# EAGLE library part WOLFSON-I2S-WM8521 (library Pygmy)
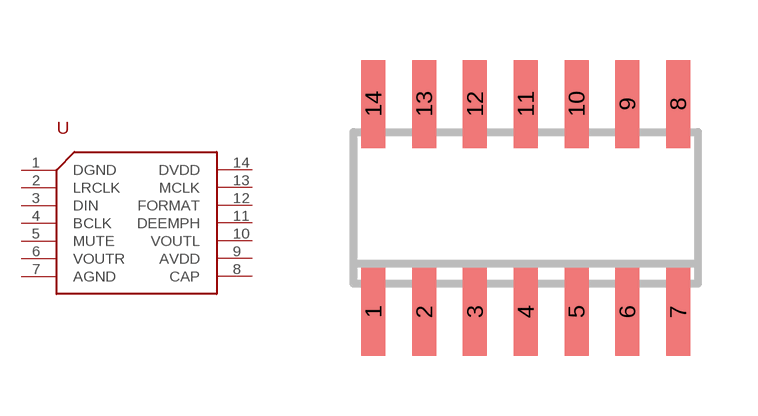
[diagram p88: symbol with the pads of SO-14; footprint SO-14]

Designator prefix -

## WOLFSON-I2S-WM8521  [SO-14]
1  DGND
2  LRCLK
3  DIN
4  BCLK
5  MUTE
6  VOUTR
7  AGND
8  CAP
9  AVDD
10  VOUTL
11  DEEMPH
12  FORMAT
13  MCLK
14  DVDD

## Footprint SO-14 (pad centres in mm)
Small Outline Narrow Plastic Gull Wing 150-mil body, package type SL
smd 0.6 x 2.2: 1 -3.81,-2.6; 2 -2.54,-2.6; 3 -1.27,-2.6; 4 0,-2.6; 5 1.27,-2.6; 6 2.54,-2.6; 7 3.81,-2.6; 8 3.81,2.6; 9 2.54,2.6; 10 1.27,2.6; 11 0,2.6; 12 -1.27,2.6; 13 -2.54,2.6; 14 -3.81,2.6